# Altium footprint library connector.PcbLib: 80 footprints (part 4 of 5)
Each footprint in its own frame and in the unit in brackets; x right, y up, seen from the top. Pads: shape width x height; smd on the part's side, far side on the other; paste and mask are expansions set on the pad; w line width, h text height; cw(c..) or ccw(c..) is an arc to the next point about the centre after c.
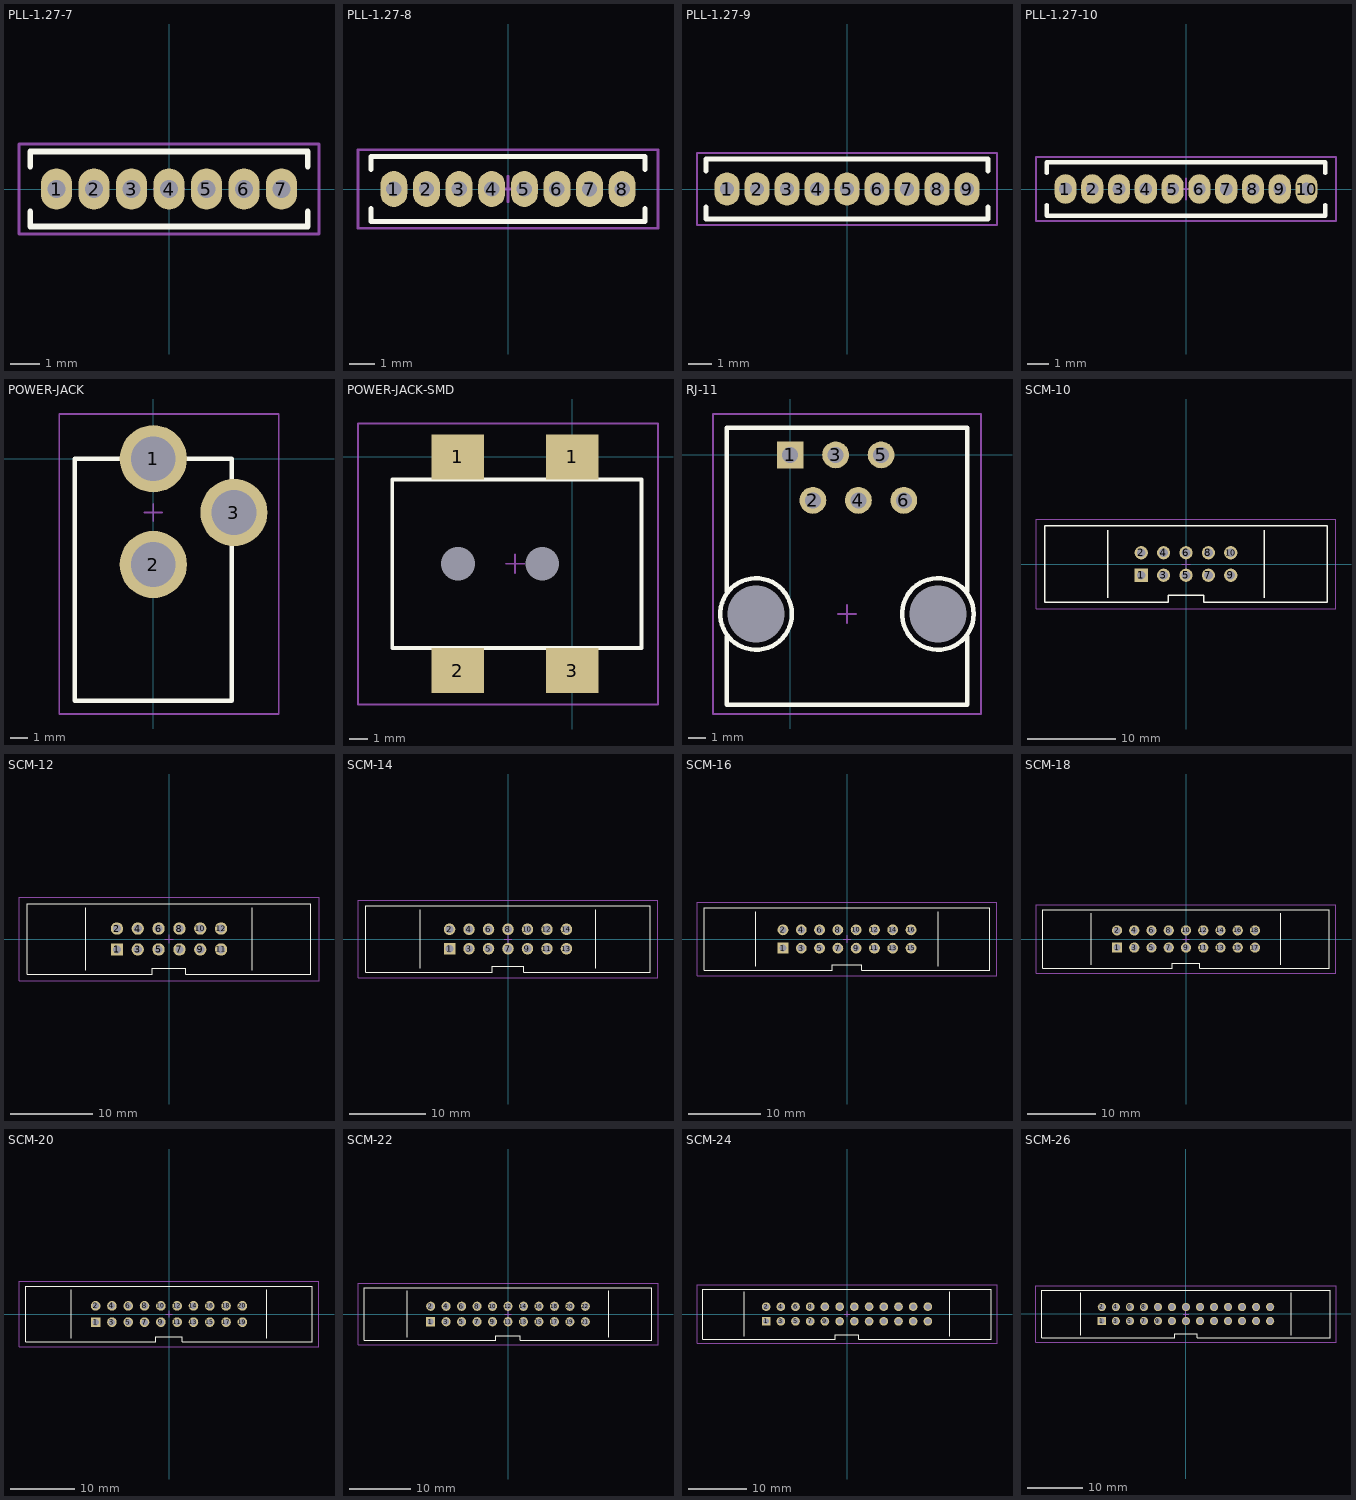
[diagram p3: the footprints below, top view; thin cyan lines are the x and y axes]

## PLL-1.27-7 [mm]
pads (7):
  oval 1.05x1.4 hole 0.6: 1(-3.81,0) 2(-2.54,0) 3(-1.27,0) 4(0,0) 5(1.27,0) 6(2.54,0) 7(3.81,0)
Top Overlay:
  lines w0.2: -4.699,-0.762 -4.699,-1.27 4.699,-1.27 4.699,-0.762 ; -4.699,0.762 -4.699,1.27 4.699,1.27 4.699,0.762
Mechanical 13:
  lines w0.1: -5.08,-1.524 -5.08,1.524 5.08,1.524 5.08,-1.524 -5.08,-1.524
  text ".Designator" at -1.27,-0.508 h1
Mechanical 15:
  lines w0.05: -5.08,-1.524 5.08,-1.524 5.08,1.524 -5.08,1.524 -5.08,-1.524
  lines w0.1: -0.5,0 0.5,0 ; 0,-0.5 0,0.5
3D body: height 6.5, standoff -2.5, extent 3.61,-0.2 4.01,0.2
3D body: height 6.5, standoff -2.5, extent 2.34,-0.2 2.74,0.2
3D body: height 6.5, standoff -2.5, extent 1.07,-0.2 1.47,0.2
3D body: height 6.5, standoff -2.5, extent -0.2,-0.2 0.2,0.2
3D body: height 6.5, standoff -2.5, extent -1.47,-0.2 -1.07,0.2
3D body: height 6.5, standoff -2.5, extent -2.74,-0.2 -2.34,0.2
3D body: height 6.5, standoff -2.5, extent -4.01,-0.2 -3.61,0.2
3D body: height 1.5, standoff 0, extent -4.699,-1.27 4.699,1.27

## PLL-1.27-8 [mm]
pads (8):
  oval 1.05x1.4 hole 0.6: 1(-4.445,0) 2(-3.175,0) 3(-1.905,0) 4(-0.635,0) 5(0.635,0) 6(1.905,0) 7(3.175,0) 8(4.445,0)
Top Overlay:
  lines w0.2: -5.334,-0.762 -5.334,-1.27 5.334,-1.27 5.334,-0.762 ; -5.334,0.762 -5.334,1.27 5.334,1.27 5.334,0.762
Mechanical 13:
  lines w0.1: -5.842,-1.524 -5.842,1.524 5.842,1.524 5.842,-1.524 -5.842,-1.524
  text ".Designator" at -1.016,-0.508 h1
Mechanical 15:
  lines w0.05: -5.842,-1.524 -5.842,1.524 5.842,1.524 5.842,-1.524 -5.842,-1.524
  lines w0.1: -0.5,0 0.5,0 ; 0,-0.5 0,0.5
3D body: height 1.5, standoff 0, extent -5.334,-1.27 5.334,1.27
3D body: height 6.5, standoff -2.5, extent -4.645,-0.2 -4.245,0.2
3D body: height 6.5, standoff -2.5, extent -3.375,-0.2 -2.975,0.2
3D body: height 6.5, standoff -2.5, extent -2.105,-0.2 -1.705,0.2
3D body: height 6.5, standoff -2.5, extent -0.835,-0.2 -0.435,0.2
3D body: height 6.5, standoff -2.5, extent 0.435,-0.2 0.835,0.2
3D body: height 6.5, standoff -2.5, extent 1.705,-0.2 2.105,0.2
3D body: height 6.5, standoff -2.5, extent 2.975,-0.2 3.375,0.2
3D body: height 6.5, standoff -2.5, extent 4.245,-0.2 4.645,0.2

## PLL-1.27-9 [mm]
pads (9):
  oval 1.05x1.4 hole 0.6: 1(-5.08,0) 2(-3.81,0) 3(-2.54,0) 4(-1.27,0) 5(0,0) 6(1.27,0) 7(2.54,0) 8(3.81,0) 9(5.08,0)
Top Overlay:
  lines w0.2: -5.969,-0.762 -5.969,-1.27 5.969,-1.27 5.969,-0.762 ; -5.969,0.762 -5.969,1.27 5.969,1.27 5.969,0.762
Mechanical 13:
  lines w0.1: -6.35,-1.524 6.35,-1.524 6.35,1.524 -6.35,1.524 -6.35,-1.524
  text ".Designator" at -1.016,-0.508 h1
Mechanical 15:
  lines w0.05: -6.35,-1.524 -6.35,1.524 6.35,1.524 6.35,-1.524 -6.35,-1.524
  lines w0.1: -0.5,0 0.5,0 ; 0,-0.5 0,0.5
3D body: height 1.5, standoff 0, extent -5.969,-1.27 5.969,1.27
3D body: height 6.5, standoff -2.5, extent -5.28,-0.2 -4.88,0.2
3D body: height 6.5, standoff -2.5, extent -4.01,-0.2 -3.61,0.2
3D body: height 6.5, standoff -2.5, extent -2.74,-0.2 -2.34,0.2
3D body: height 6.5, standoff -2.5, extent -1.47,-0.2 -1.07,0.2
3D body: height 6.5, standoff -2.5, extent -0.2,-0.2 0.2,0.2
3D body: height 6.5, standoff -2.5, extent 1.07,-0.2 1.47,0.2
3D body: height 6.5, standoff -2.5, extent 2.34,-0.2 2.74,0.2
3D body: height 6.5, standoff -2.5, extent 3.61,-0.2 4.01,0.2
3D body: height 6.5, standoff -2.5, extent 4.88,-0.2 5.28,0.2

## PLL-1.27-10 [mm]
pads (10):
  oval 1.05x1.4 hole 0.6: 1(-5.715,0) 2(-4.445,0) 3(-3.175,0) 4(-1.905,0) 5(-0.635,0) 6(0.635,0) 7(1.905,0) 8(3.175,0) 9(4.445,0) 10(5.715,0)
Top Overlay:
  lines w0.2: -6.604,-0.762 -6.604,-1.27 6.604,-1.27 6.604,-0.762 ; -6.604,0.762 -6.604,1.27 6.604,1.27 6.604,0.762
Mechanical 13:
  lines w0.1: -7.112,-1.524 -7.112,1.524 7.112,1.524 7.112,-1.524 -7.112,-1.524
  text ".Designator" at -1.016,-0.508 h1
Mechanical 15:
  lines w0.05: -7.112,-1.524 -7.112,1.524 7.112,1.524 7.112,-1.524 -7.112,-1.524
  lines w0.1: -0.5,0 0.5,0 ; 0,-0.5 0,0.5
3D body: height 1.5, standoff 0, extent -6.604,-1.27 6.604,1.27
3D body: height 6.5, standoff -2.5, extent 5.515,-0.2 5.915,0.2
3D body: height 6.5, standoff -2.5, extent 4.245,-0.2 4.645,0.2
3D body: height 6.5, standoff -2.5, extent 2.975,-0.2 3.375,0.2
3D body: height 6.5, standoff -2.5, extent 1.705,-0.2 2.105,0.2
3D body: height 6.5, standoff -2.5, extent 0.435,-0.2 0.835,0.2
3D body: height 6.5, standoff -2.5, extent -0.835,-0.2 -0.435,0.2
3D body: height 6.5, standoff -2.5, extent -2.105,-0.2 -1.705,0.2
3D body: height 6.5, standoff -2.5, extent -3.375,-0.2 -2.975,0.2
3D body: height 6.5, standoff -2.5, extent -4.645,-0.2 -4.245,0.2
3D body: height 6.5, standoff -2.5, extent -5.915,-0.2 -5.515,0.2

## POWER-JACK [mil]
pads (3):
  round 150 hole 100: 1(0,0) 2(0,-236.22) 3(180,-120)
Top Overlay:
  lines w10: -175,-540 175,-540 175,0 -175,0 -175,-540
Mechanical 13:
  lines w3.94: -210,-570 -210,100 280,100 280,-570 -210,-570
  text ".Designator" at -50,-280 h78.74
Mechanical 15:
  lines w1.97: -210,-570 -210,100 280,100 280,-570 -210,-570
  lines w3.94: -19.69,-120 19.68,-120 ; 0,-139.69 0,-100.31

## POWER-JACK-SMD [mm]
pads (6):
  round 0 hole 1.8: 0(-6.1,-5.7) 0(-1.6,-5.7)
  rect 2.8x2.4 smd: 1(-6.1,0) 1(0,0) 2(-6.1,-11.4) 3(0,-11.4)
Top Overlay:
  lines w0.203: -9.6,-10.2 3.7,-10.2 3.7,-1.2 -9.6,-1.2 -9.6,-10.2
Mechanical 13:
  lines w0.1: -11.43,-13.208 -11.43,1.778 4.572,1.778 4.572,-13.208 -11.43,-13.208
  text ".Designator" at -5.842,-6.858 h2
Mechanical 15:
  lines w0.05: -11.43,-13.208 -11.43,1.778 4.572,1.778 4.572,-13.208 -11.43,-13.208
  lines w0.1: -3.552,-5.7 -2.552,-5.7 ; -3.052,-6.2 -3.052,-5.2

## RJ-11 [mm]
pads (8):
  round 0 hole 3.2: 0(-1.905,-8.89) 0(8.255,-8.89)
  rect 1.5x1.5 hole 0.9: 1(0,0)
  round 1.5 hole 0.9: 2(1.27,-2.54) 3(2.54,0) 4(3.81,-2.54) 5(5.08,0) 6(6.35,-2.54)
Top Overlay:
  circle w0.254: c8.255,-8.89 r2
  circle w0.254: c-1.905,-8.89 r2
  lines w0.254: -3.556,-10.16 -3.556,-13.97 9.906,-13.97 9.906,-10.16 ; -3.556,-7.62 -3.556,1.524 9.906,1.524 9.906,-7.62
Mechanical 13:
  lines w0.1: -4.318,-14.478 -4.318,2.286 10.668,2.286 10.668,-14.478 -4.318,-14.478
  text ".Designator" at 1.016,-7.112 h2
Mechanical 15:
  lines w0.05: -4.318,-14.478 -4.318,2.286 10.668,2.286 10.668,-14.478 -4.318,-14.478
  lines w0.1: 2.675,-8.89 3.675,-8.89 ; 3.175,-9.39 3.175,-8.39

## SCM-10 [mm]
pads (10):
  rect 1.5x1.5 hole 1: 1(-5.08,-1.27)
  round 1.5 hole 1: 2(-5.08,1.27) 3(-2.54,-1.27) 4(-2.54,1.27) 5(0,-1.27) 6(0,1.27) 7(2.54,-1.27) 8(2.54,1.27) 9(5.08,-1.27) 10(5.08,1.27)
Top Overlay:
  lines w0.15: -8.89,-3.81 -8.89,3.81 ; 8.89,-3.81 8.89,3.81 ; -16.002,-4.318 -2.032,-4.318 -2.032,-3.556 2.032,-3.556 2.032,-4.318 16.002,-4.318 16.002,4.318 -16.002,4.318 -16.002,-4.318
Mechanical 13:
  lines w0.1: -17.018,-5.08 -17.018,5.08 17.018,5.08 17.018,-5.08 -17.018,-5.08
  text ".Designator" at -2.286,-1.016 h2
Mechanical 15:
  lines w0.05: -17.018,-5.08 -17.018,5.08 17.018,5.08 17.018,-5.08 -17.018,-5.08
  lines w0.1: -0.5,0 0.5,0 ; 0,-0.5 0,0.5

## SCM-12 [mm]
pads (12):
  rect 1.5x1.5 hole 1: 1(-6.35,-1.27)
  round 1.5 hole 1: 2(-6.35,1.27) 3(-3.81,-1.27) 4(-3.81,1.27) 5(-1.27,-1.27) 6(-1.27,1.27) 7(1.27,-1.27) 8(1.27,1.27) 9(3.81,-1.27) 10(3.81,1.27) 11(6.35,-1.27) 12(6.35,1.27)
Top Overlay:
  lines w0.15: -10.16,-3.81 -10.16,3.81 ; 10.16,-3.81 10.16,3.81 ; -17.272,-4.318 -2.032,-4.318 -2.032,-3.556 2.032,-3.556 2.032,-4.318 17.272,-4.318 17.272,4.318 -17.272,4.318 -17.272,-4.318
Mechanical 13:
  lines w0.1: -18.288,-5.08 -18.288,5.08 18.288,5.08 18.288,-5.08 -18.288,-5.08
  text ".Designator" at -2.032,-1.016 h2
Mechanical 15:
  lines w0.05: -18.288,-5.08 -18.288,5.08 18.288,5.08 18.288,-5.08 -18.288,-5.08
  lines w0.1: -0.5,0 0.5,0 ; 0,-0.5 0,0.5

## SCM-14 [mm]
pads (14):
  rect 1.5x1.5 hole 1: 1(-7.62,-1.27)
  round 1.5 hole 1: 2(-7.62,1.27) 3(-5.08,-1.27) 4(-5.08,1.27) 5(-2.54,-1.27) 6(-2.54,1.27) 7(0,-1.27) 8(0,1.27) 9(2.54,-1.27) 10(2.54,1.27) 11(5.08,-1.27) 12(5.08,1.27) 13(7.62,-1.27) 14(7.62,1.27)
Top Overlay:
  lines w0.15: -11.43,-3.81 -11.43,3.81 ; 11.43,-3.81 11.43,3.81 ; -18.542,-4.318 -18.542,4.318 18.542,4.318 18.542,-4.318 2.032,-4.318 2.032,-3.556 -2.032,-3.556 -2.032,-4.318 -18.542,-4.318
Mechanical 13:
  lines w0.1: -19.558,-5.08 -19.558,5.08 19.558,5.08 19.558,-5.08 -19.558,-5.08
  text ".Designator" at -2.032,-1.016 h2
Mechanical 15:
  lines w0.05: -19.558,-5.08 -19.558,5.08 19.558,5.08 19.558,-5.08 -19.558,-5.08
  lines w0.1: -0.5,0 0.5,0 ; 0,-0.5 0,0.5

## SCM-16 [mm]
pads (16):
  rect 1.5x1.5 hole 1: 1(-8.89,-1.27)
  round 1.5 hole 1: 2(-8.89,1.27) 3(-6.35,-1.27) 4(-6.35,1.27) 5(-3.81,-1.27) 6(-3.81,1.27) 7(-1.27,-1.27) 8(-1.27,1.27) 9(1.27,-1.27) 10(1.27,1.27) 11(3.81,-1.27) 12(3.81,1.27) 13(6.35,-1.27) 14(6.35,1.27) 15(8.89,-1.27) 16(8.89,1.27)
Top Overlay:
  lines w0.15: -12.7,-3.81 -12.7,3.81 ; 12.7,-3.81 12.7,3.81 ; -19.812,-4.318 -19.812,4.318 19.812,4.318 19.812,-4.318 2.032,-4.318 2.032,-3.556 -2.032,-3.556 -2.032,-4.318 -19.812,-4.318
Mechanical 13:
  lines w0.1: -20.828,-5.08 20.828,-5.08 20.828,5.08 -20.828,5.08 -20.828,-5.08
  text ".Designator" at -2.032,-1.016 h2
Mechanical 15:
  lines w0.05: -20.828,-5.08 20.828,-5.08 20.828,5.08 -20.828,5.08 -20.828,-5.08
  lines w0.1: -0.5,0 0.5,0 ; 0,-0.5 0,0.5

## SCM-18 [mm]
pads (18):
  rect 1.5x1.5 hole 1: 1(-10.16,-1.27)
  round 1.5 hole 1: 2(-10.16,1.27) 3(-7.62,-1.27) 4(-7.62,1.27) 5(-5.08,-1.27) 6(-5.08,1.27) 7(-2.54,-1.27) 8(-2.54,1.27) 9(0,-1.27) 10(0,1.27) 11(2.54,-1.27) 12(2.54,1.27) 13(5.08,-1.27) 14(5.08,1.27) 15(7.62,-1.27) 16(7.62,1.27) 17(10.16,-1.27) 18(10.16,1.27)
Top Overlay:
  lines w0.15: -13.97,-3.81 -13.97,3.81 ; 13.97,-3.81 13.97,3.81 ; -21.082,-4.318 -2.032,-4.318 -2.032,-3.556 2.032,-3.556 2.032,-4.318 21.082,-4.318 21.082,4.318 -21.082,4.318 -21.082,-4.318
Mechanical 13:
  lines w0.1: -22.098,-5.08 -22.098,5.08 22.098,5.08 22.098,-5.08 -22.098,-5.08
  text ".Designator" at -2.032,-1.016 h2
Mechanical 15:
  lines w0.05: -22.098,-5.08 -22.098,5.08 22.098,5.08 22.098,-5.08 -22.098,-5.08
  lines w0.1: -0.5,0 0.5,0 ; 0,-0.5 0,0.5

## SCM-20 [mm]
pads (20):
  rect 1.5x1.5 hole 1: 1(-11.43,-1.27)
  round 1.5 hole 1: 2(-11.43,1.27) 3(-8.89,-1.27) 4(-8.89,1.27) 5(-6.35,-1.27) 6(-6.35,1.27) 7(-3.81,-1.27) 8(-3.81,1.27) 9(-1.27,-1.27) 10(-1.27,1.27) 11(1.27,-1.27) 12(1.27,1.27) 13(3.81,-1.27) 14(3.81,1.27) 15(6.35,-1.27) 16(6.35,1.27) 17(8.89,-1.27) 18(8.89,1.27) 19(11.43,-1.27) 20(11.43,1.27)
Top Overlay:
  lines w0.15: -15.24,-3.81 -15.24,3.81 ; 15.24,-3.81 15.24,3.81 ; -22.352,-4.318 -22.352,4.318 22.352,4.318 22.352,-4.318 2.032,-4.318 2.032,-3.556 -2.032,-3.556 -2.032,-4.318 -22.352,-4.318
Mechanical 13:
  lines w0.1: -23.368,-5.08 23.368,-5.08 23.368,5.08 -23.368,5.08 -23.368,-5.08
  text ".Designator" at -2.032,-1.016 h2
Mechanical 15:
  lines w0.05: -23.368,-5.08 23.368,-5.08 23.368,5.08 -23.368,5.08 -23.368,-5.08
  lines w0.1: -0.5,0 0.5,0 ; 0,-0.5 0,0.5

## SCM-22 [mm]
pads (22):
  rect 1.5x1.5 hole 1: 1(-12.7,-1.27)
  round 1.5 hole 1: 2(-12.7,1.27) 3(-10.16,-1.27) 4(-10.16,1.27) 5(-7.62,-1.27) 6(-7.62,1.27) 7(-5.08,-1.27) 8(-5.08,1.27) 9(-2.54,-1.27) 10(-2.54,1.27) 11(0,-1.27) 12(0,1.27) 13(2.54,-1.27) 14(2.54,1.27) 15(5.08,-1.27) 16(5.08,1.27) 17(7.62,-1.27) 18(7.62,1.27) 19(10.16,-1.27) 20(10.16,1.27) 21(12.7,-1.27) 22(12.7,1.27)
Top Overlay:
  lines w0.15: -16.51,-3.81 -16.51,3.81 ; 16.51,-3.81 16.51,3.81 ; -23.622,-4.318 -23.622,4.318 23.622,4.318 23.622,-4.318 2.032,-4.318 2.032,-3.556 -2.032,-3.556 -2.032,-4.318 -23.622,-4.318
Mechanical 13:
  lines w0.1: -24.638,-5.08 -24.638,5.08 24.638,5.08 24.638,-5.08 -24.638,-5.08
  text ".Designator" at -2.032,-1.016 h2
Mechanical 15:
  lines w0.05: -24.638,-5.08 -24.638,5.08 24.638,5.08 24.638,-5.08 -24.638,-5.08
  lines w0.1: -0.5,0 0.5,0 ; 0,-0.5 0,0.5

## SCM-24 [mm]
pads (24):
  rect 1.5x1.5 hole 1: 1(-13.97,-1.27)
  round 1.5 hole 1: 2(-13.97,1.27) 3(-11.43,-1.27) 4(-11.43,1.27) 5(-8.89,-1.27) 6(-8.89,1.27) 7(-6.35,-1.27) 8(-6.35,1.27) 9(-3.81,-1.27) 10(-3.81,1.27) 11(-1.27,-1.27) 12(-1.27,1.27) 13(1.27,-1.27) 14(1.27,1.27) 15(3.81,-1.27) 16(3.81,1.27) 17(6.35,-1.27) 18(6.35,1.27) 19(8.89,-1.27) 20(8.89,1.27) 21(11.43,-1.27) 22(11.43,1.27) 23(13.97,-1.27) 24(13.97,1.27)
Top Overlay:
  lines w0.15: -17.78,-3.81 -17.78,3.81 ; 17.78,-3.81 17.78,3.81 ; -24.892,-4.318 -24.892,4.318 24.892,4.318 24.892,-4.318 2.032,-4.318 2.032,-3.556 -2.032,-3.556 -2.032,-4.318 -24.892,-4.318
Mechanical 13:
  lines w0.1: -25.908,-5.08 25.908,-5.08 25.908,5.08 -25.908,5.08 -25.908,-5.08
  text ".Designator" at -2.032,-1.016 h2
Mechanical 15:
  lines w0.05: -25.908,-5.08 25.908,-5.08 25.908,5.08 -25.908,5.08 -25.908,-5.08
  lines w0.1: -0.5,0 0.5,0 ; 0,-0.5 0,0.5

## SCM-26 [mm]
pads (26):
  rect 1.5x1.5 hole 1: 1(-15.24,-1.27)
  round 1.5 hole 1: 2(-15.24,1.27) 3(-12.7,-1.27) 4(-12.7,1.27) 5(-10.16,-1.27) 6(-10.16,1.27) 7(-7.62,-1.27) 8(-7.62,1.27) 9(-5.08,-1.27) 10(-5.08,1.27) 11(-2.54,-1.27) 12(-2.54,1.27) 13(0,-1.27) 14(0,1.27) 15(2.54,-1.27) 16(2.54,1.27) 17(5.08,-1.27) 18(5.08,1.27) 19(7.62,-1.27) 20(7.62,1.27) 21(10.16,-1.27) 22(10.16,1.27) 23(12.7,-1.27) 24(12.7,1.27) 25(15.24,-1.27) 26(15.24,1.27)
Top Overlay:
  lines w0.15: -19.05,-3.81 -19.05,3.81 ; 19.05,-3.81 19.05,3.81 ; -26.162,-4.318 -26.162,4.318 26.162,4.318 26.162,-4.318 2.032,-4.318 2.032,-3.556 -2.032,-3.556 -2.032,-4.318 -26.162,-4.318
Mechanical 13:
  lines w0.1: -27.178,-5.08 -27.178,5.08 27.178,5.08 27.178,-5.08 -27.178,-5.08
  text ".Designator" at -2.032,-1.016 h2
Mechanical 15:
  lines w0.05: -27.178,-5.08 -27.178,5.08 27.178,5.08 27.178,-5.08 -27.178,-5.08
  lines w0.1: -0.5,0 0.5,0 ; 0,-0.5 0,0.5